# Altium footprint library Lagenfenster_6Layer.PcbLib: 1 footprints
Each footprint in its own frame and in the unit in brackets; x right, y up, seen from the top. Pads: shape width x height; smd on the part's side, far side on the other; paste and mask are expansions set on the pad; w line width, h text height; cw(c..) or ccw(c..) is an arc to the next point about the centre after c.
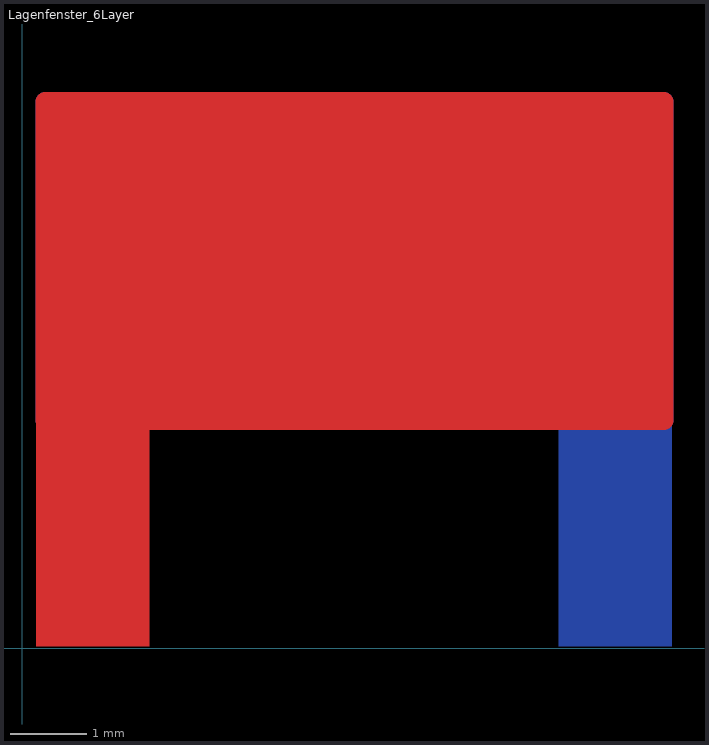
[diagram p0: the footprint, top view; thin cyan lines are the x and y axes]

## Lagenfenster_6Layer [mm]
Top Layer:
  rectangle: 0.176,0.025 1.676,3.025
  pour cut-out: 0.3,7.2 8.45,7.2 8.45,3 0.3,3
  lines w0.254: 0.3,3 0.3,7.2 8.45,7.2 8.45,3 0.3,3
  text "L1" at 0.9,5.4 h1.2
Mid-Layer 1:
  rectangle: 1.396,0.025 2.896,3.025
  pour cut-out: 0.3,7.2 8.45,7.2 8.45,3 0.3,3
  text "L2" at 3.404,5.41 h1.2
Mid-Layer 2:
  rectangle: 2.869,0.025 4.369,3.025
  pour cut-out: 0.3,7.2 8.45,7.2 8.45,3 0.3,3
  text "L3" at 5.893,5.41 h1.2
Mid-Layer 3:
  rectangle: 4.242,0.025 5.742,3.025
  pour cut-out: 0.3,7.2 8.45,7.2 8.45,3 0.3,3
  text "L4" at 2.718,3.632 h1.2
Mid-Layer 4:
  rectangle: 5.664,0.025 7.164,3.025
  pour cut-out: 0.3,7.2 8.45,7.2 8.45,3 0.3,3
  text "L5" at 5.35,3.65 h1.2
Bottom Layer:
  rectangle: 7.06,0.025 8.56,3.025
  pour cut-out: 0.3,7.2 8.45,7.2 8.45,3 0.3,3
  lines w0.254: 0.3,3 0.3,7.2 8.45,7.2 8.45,3 0.3,3
  text "L6" at 7.85,3.65 h1.2